# Altium footprint library HIGH AMP IGBT DRIVER.PcbLib: 48 footprints (part 2 of 3)
Each footprint in its own frame and in the unit in brackets; x right, y up, seen from the top. Pads: shape width x height; smd on the part's side, far side on the other; paste and mask are expansions set on the pad; w line width, h text height; cw(c..) or ccw(c..) is an arc to the next point about the centre after c.
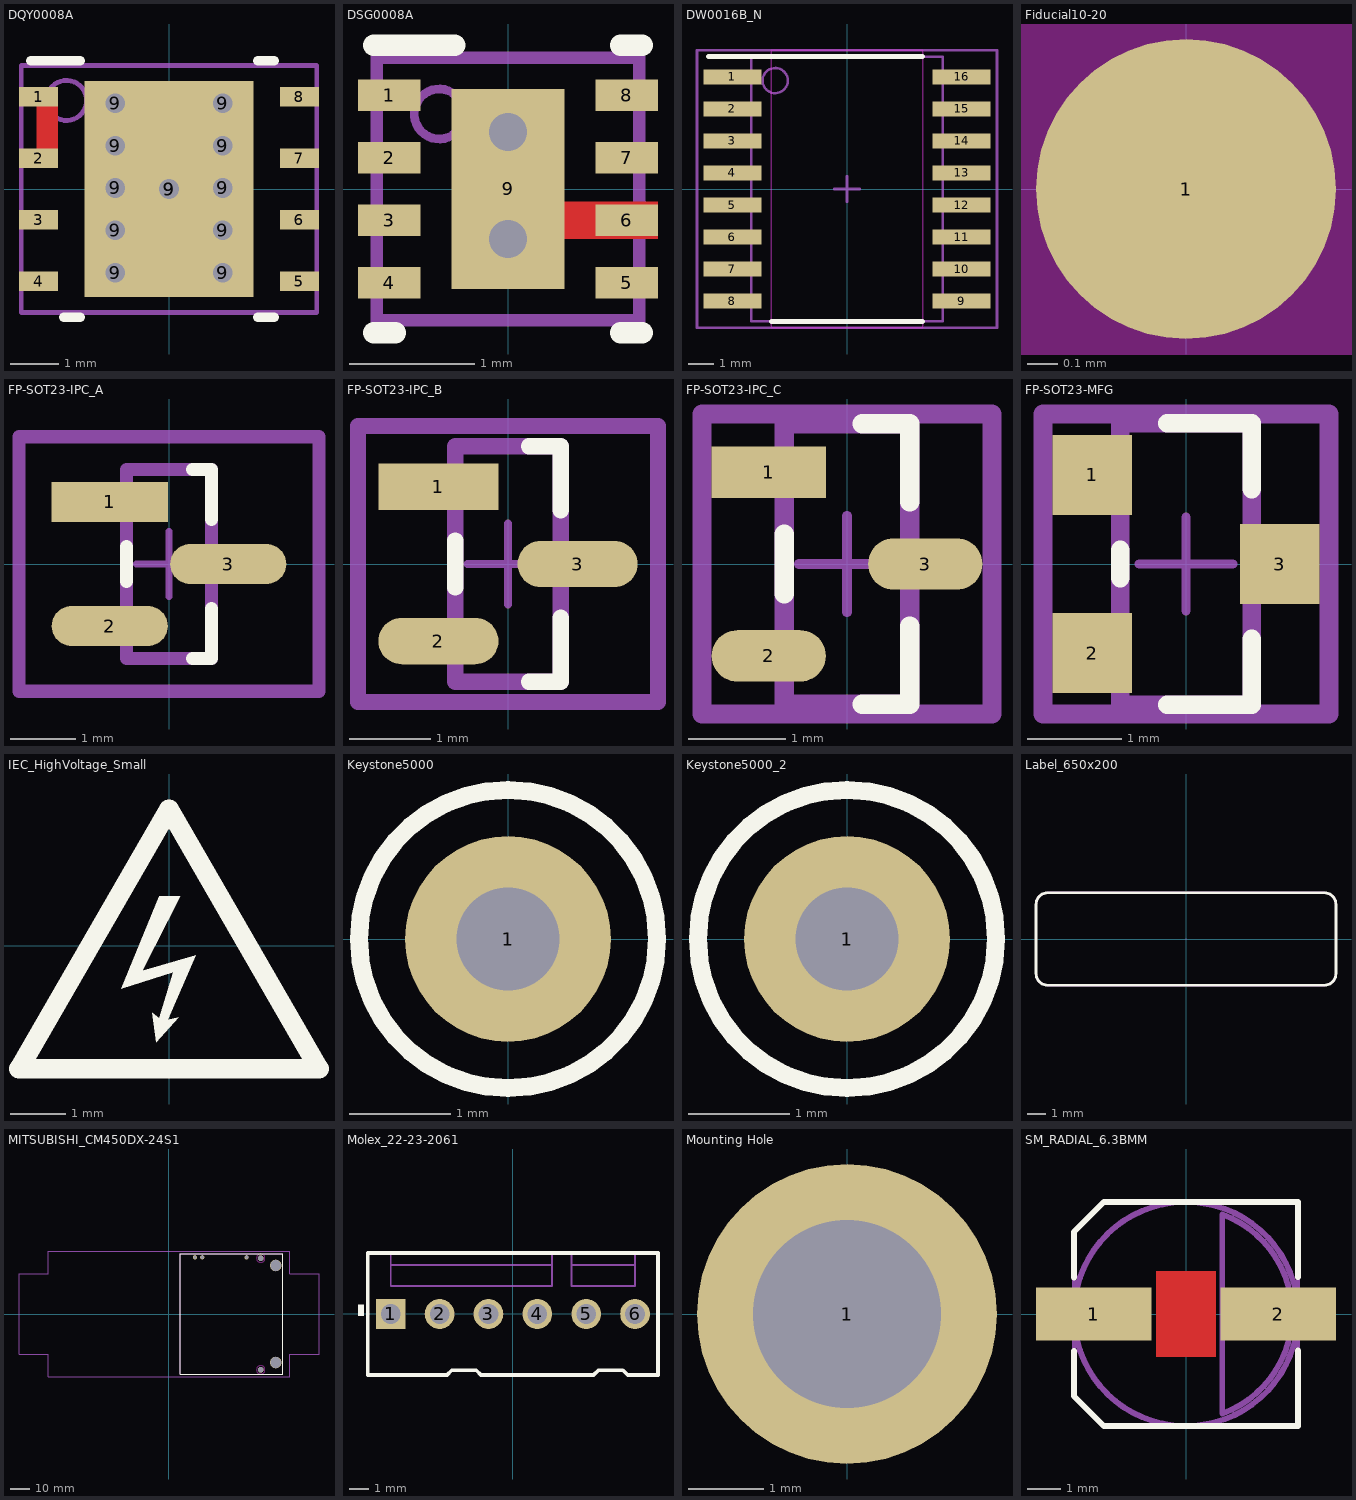
[diagram p1: the footprints below, top view; thin cyan lines are the x and y axes]

## DQY0008A [mil]
pads (20):
  rect 31.89x16.14 smd: 1(-106,75) 2(-106,25) 3(-106,-25) 4(-106,-75) 5(106,-75) 6(106,-25) 7(106,25) 8(106,75)
  round 30 hole 16: 9(-43.7,-68.06) 9(-43.7,-33.61) 9(-43.7,0.84) 9(-43.7,35.29) 9(-43.7,69.73) 9(0,0) 9(43.7,-68.06) 9(43.7,-33.61) 9(43.7,0.84) 9(43.7,35.29) 9(43.7,69.73)
  rect 137.01x175.59 smd paste-87.3: 9(0,0)
Top Layer:
  rectangle: -107.77,16.93 -90.05,83.07
Top Overlay:
  lines w7.87: -112.2,104.33 -72.09,104.33 ; -85.68,-104.33 -72.09,-104.33 ; 72.09,-104.33 85.68,-104.33 ; 72.09,104.33 85.68,104.33
Top Paste:
  rectangle: 3.94,3.94 62.99,77.4
  region: -3.94,77.4 -62.99,77.4 -62.99,3.94 -3.94,3.94
  region: -3.94,-3.94 -62.99,-3.94 -62.99,-77.4 -3.94,-77.4
  rectangle: 3.94,-77.4 62.99,-3.94
Top Assembly:
  circle w4: c-83.28,72 r16.28
  lines w3.94: -120.08,-100.39 -120.08,100.39 120.08,100.39 120.08,-100.39 -120.08,-100.39
  text ".Designator" at -28,18 h30
3D body: height 59.06, standoff 0, extent -122.05,-102.36 122.05,102.36
3D body: height 59.45, standoff 39.37, extent -99.54,55.74 -67.02,88.26

## DSG0008A [mm]
pads (9):
  rect 0.5x0.25 smd: 1(-0.95,0.75) 2(-0.95,0.25) 3(-0.95,-0.25) 4(-0.95,-0.75) 5(0.95,-0.75) 6(0.95,-0.25) 7(0.95,0.25) 8(0.95,0.75)
  rect 0.9x1.6 smd paste-0.45: 9(0,0)
via 0,-0.4 diameter 0.61 hole 0.305
via 0,0.457 diameter 0.61 hole 0.305
Top Layer:
  rectangle: 0,-0.4 1.2,-0.1
Top Overlay:
  lines w0.17: -1.075,-1.15 -0.9,-1.15 ; -1.075,1.15 -0.425,1.15 ; 0.9,-1.15 1.075,-1.15 ; 0.9,1.15 1.075,1.15
Top Paste:
  rectangle: -0.427,-0.733 0.427,0.733
Top Assembly:
  circle w0.07: c-0.55,0.6 r0.2
  lines w0.1: -1.05,-1.05 -1.05,1.05 1.05,1.05 1.05,-1.05 -1.05,-1.05
  text ".Designator" at -0.102,0.711 h0.76
3D body: height 0.8, standoff 0.5, extent -0.749,0.401 -0.351,0.799
3D body: height 0.8, standoff 0, extent -1.05,-1.05 1.05,1.05

## DW0016B_N [mm]
pads (16):
  rect 2.3x0.6 smd: 1(-4.55,4.445) 2(-4.55,3.175) 3(-4.55,1.905) 4(-4.55,0.635) 5(-4.55,-0.635) 6(-4.55,-1.905) 7(-4.55,-3.175) 8(-4.55,-4.445) 9(4.55,-4.445) 10(4.55,-3.175) 11(4.55,-1.905) 12(4.55,-0.635) 13(4.55,0.635) 14(4.55,1.905) 15(4.55,3.175) 16(4.55,4.445)
Top Overlay:
  lines w0.2: -5.5,5.25 3,5.25 ; -3,-5.25 3,-5.25
Keep-Out Layer:
  lines w0.05: -3,-5.5 -3,5.5 3,5.5 3,-5.5 -3,-5.5
Top Assembly:
  circle w0.1: c-2.85,4.3 r0.5
  lines w0.1: -3.8,-5.25 -3.8,5.25 3.8,5.25 3.8,-5.25 -3.8,-5.25
  text ".Designator" at 2.032,3.429 h0.76
Mechanical 15:
  lines w0.1: -0.5,0 0.5,0 ; 0,-0.5 0,0.5 ; -5.95,-5.5 -5.95,5.5 5.95,5.5 5.95,-5.5 -5.95,-5.5
3D body: height 2.66, standoff 2.65, extent -3.25,3.85 -2.45,4.65
3D body: height 2.65, standoff 0.1, extent -3.8,-5.25 3.8,5.25

## Fiducial10-20 [mm]
pads (1):
  round 1 smd mask+0.5: 1(0,0)
Top Layer keep-out:
  circle w1.178: c0,0 r0.5

## FP-SOT23-IPC_A [mm]
pads (3):
  rect 1.781x0.612 smd paste+0 mask+0: 1(-0.908,0.95)
  rrect100% 1.781x0.612 smd paste+0 mask+0: 2(-0.908,-0.95) 3(0.908,0)
Top Overlay:
  lines w0.2: -0.65,-0.269 -0.65,0.269 ; 0.358,-1.45 0.65,-1.45 0.65,-0.681 ; 0.358,1.45 0.65,1.45 0.65,0.681
Top 3D Body:
  lines w0.2: -0.65,-1.45 0.65,-1.45 0.65,1.45 -0.65,1.45 -0.65,-1.45
Top Assembly:
  lines w0.2: -2.298,-1.95 2.298,-1.95 2.298,1.95 -2.298,1.95 -2.298,-1.95
  text ".Designator" at 0,-0.001 h1
Top Courtyard:
  lines w0.2: -2.298,-1.95 2.298,-1.95 2.298,1.95 -2.298,1.95 -2.298,-1.95
Top Component Center:
  lines w0.1: -0.5,0 0.5,0 ; 0,-0.5 0,0.5
3D body "Diode_Bourns_Inc_CDSOT23-SM712_eec.STEP": height 0.25, standoff 0, extent -2.298,-1.95 2.298,1.95

## FP-SOT23-IPC_B [mm]
pads (3):
  rect 1.481x0.572 smd paste+0 mask+0: 1(-0.858,0.95)
  rrect100% 1.481x0.572 smd paste+0 mask+0: 2(-0.858,-0.95) 3(0.858,0)
Top Overlay:
  lines w0.2: -0.65,-0.289 -0.65,0.289 ; 0.258,-1.45 0.65,-1.45 0.65,-0.661 ; 0.258,1.45 0.65,1.45 0.65,0.661
Top 3D Body:
  lines w0.2: -0.65,-1.45 -0.65,1.45 0.65,1.45 0.65,-1.45 -0.65,-1.45
Top Assembly:
  lines w0.2: -1.848,-1.7 -1.848,1.7 1.848,1.7 1.848,-1.7 -1.848,-1.7
  text ".Designator" at 0,-0.001 h1
Top Courtyard:
  lines w0.2: -1.848,-1.7 -1.848,1.7 1.848,1.7 1.848,-1.7 -1.848,-1.7
Top Component Center:
  lines w0.1: -0.5,0 0.5,0 ; 0,-0.5 0,0.5
3D body "Diode_Bourns_Inc_CDSOT23-SM712_eec.STEP": height 0.25, standoff 0, extent -1.848,-1.7 1.848,1.7

## FP-SOT23-IPC_C [mm]
pads (3):
  rect 1.181x0.532 smd paste+0 mask+0: 1(-0.808,0.95)
  rrect100% 1.181x0.532 smd paste+0 mask+0: 2(-0.808,-0.95) 3(0.808,0)
Top Overlay:
  lines w0.2: -0.65,-0.309 -0.65,0.309 ; 0.158,-1.45 0.65,-1.45 0.65,-0.641 ; 0.158,1.45 0.65,1.45 0.65,0.641
Top 3D Body:
  lines w0.2: -0.65,-1.45 0.65,-1.45 0.65,1.45 -0.65,1.45 -0.65,-1.45
Top Assembly:
  lines w0.2: -1.498,-1.55 1.498,-1.55 1.498,1.55 -1.498,1.55 -1.498,-1.55
  text ".Designator" at 0,-0.001 h1
Top Courtyard:
  lines w0.2: -1.498,-1.55 1.498,-1.55 1.498,1.55 -1.498,1.55 -1.498,-1.55
Top Component Center:
  lines w0.1: -0.5,0 0.5,0 ; 0,-0.5 0,0.5
3D body "Diode_Bourns_Inc_CDSOT23-SM712_eec.STEP": height 0.25, standoff 0, extent -1.498,-1.55 1.498,1.55

## FP-SOT23-MFG [mm]
pads (3):
  rect 0.85x0.85 smd paste+0 mask+0: 1(-1,0.95) 2(-1,-0.95) 3(1,0)
Top Overlay:
  lines w0.2: -0.7,-0.15 -0.7,0.15 ; -0.2,-1.5 0.7,-1.5 0.7,-0.8 ; -0.2,1.5 0.7,1.5 0.7,0.8
Top 3D Body:
  lines w0.2: -0.7,-1.5 -0.7,1.5 0.7,1.5 0.7,-1.5 -0.7,-1.5
Top Assembly:
  lines w0.2: -1.525,-1.6 -1.525,1.6 1.525,1.6 1.525,-1.6 -1.525,-1.6
  text ".Designator" at 0,-0.001 h1
Top Courtyard:
  lines w0.2: -1.525,-1.6 -1.525,1.6 1.525,1.6 1.525,-1.6 -1.525,-1.6
Top Component Center:
  lines w0.1: -0.5,0 0.5,0 ; 0,-0.5 0,0.5
3D body "Diode_Bourns_Inc_CDSOT23-SM712_eec.STEP": height 0.25, standoff 0, extent -1.525,-1.6 1.525,1.6

## IEC_HighVoltage_Small [mm]
Top Overlay:
  region: -0.178,0.889 0.203,0.889 -0.483,-0.457 0.483,-0.178 -0.025,-1.346 0.178,-1.295 -0.229,-1.753 -0.305,-1.219 -0.178,-1.321 0.076,-0.483 -0.864,-0.787
  lines w0.356: -2.718,-2.235 0,2.472 2.718,-2.235 -2.718,-2.235

## Keystone5000 [mil]
pads (1):
  round 80 hole 40: 1(0,0)
Top Overlay:
  circle w7: c0,0 r58
Top Assembly:
  circle w5: c0,0 r58.31
  text ".Designator" at -45,-10 h30
3D body "Keystone_5000.stp": height 181.74, standoff -118.11, extent -49.39,-48.74 49.04,48.97

## Keystone5000_2 [mil]
pads (1):
  round 80 hole 40: 1(0,0)
Top Overlay:
  circle w7: c0,0 r58
Top Assembly:
  circle w5: c0,0 r58.31
  text ".Designator" at -45,-10 h30
3D body "Keystone_5000.stp": height 181.74, standoff -118.11, extent -49.39,-48.74 49.04,48.97

## Label_650x200 [mil]
pads (1):
  round 1 on Mech2: 0(0,0)
Top Overlay:
  lines w6: -325,-75 ccw(c-300,-75) -300,-100 300,-100 ccw(c300,-75) 325,-75 325,75 ccw(c300,75) 300,100 -300,100 ccw(c-300,75) -325,75 -325,-75
Top Assembly:
  lines w5: -325,-75 ccw(c-300,-75) -300,-100 300,-100 ccw(c300,-75) 325,-75 325,75 ccw(c300,75) 300,100 -300,100 ccw(c-300,75) -325,75 -325,-75
  text ".Designator" at -26,64 h30
3D body: height 1, standoff 0, extent -325.02,-100.02 325.02,100.02

## MITSUBISHI_CM450DX-24S1 [mm]
pads (7):
  round 2.15 hole 1.65: 3(13.33,29.2) 4(17.14,29.2) 5(40,29.2)
  round 2.854 hole 2.854 unplated mask+0.127: ""(47.25,-28.75) ""(47.25,28.75)
  round 6 hole 5.5 unplated mask+0.127: ""(55,-25) ""(55,25)
Top Overlay:
  lines w0.178: 5.842,-31 58.623,-31 58.623,-21.727 58.623,21.727 58.623,31 5.842,31 5.842,23.098 5.842,-14.53 5.842,-31
Keep-Out Layer:
  circle w0.05: c47.25,28.75 r2.189
  circle w0.05: c47.25,-28.75 r2.189
Top Assembly:
  lines w0.127: 5.842,-31 58.623,-31 58.623,-17.273 58.623,21.727 58.623,31 5.842,31 5.842,19.5 5.842,-19.5 5.842,-31
  text ".Designator" at 31.013,2.108 h0.89
Top Courtyard:
  lines w0.05: -77.27,-20.77 -62.12,-20.77 -62.12,-32.27 62.12,-32.27 62.12,-20.77 77.27,-20.77 77.27,20.77 62.12,20.77 62.12,32.27 -62.12,32.27 -62.12,20.77 -77.27,20.77 -77.27,-20.77
Bottom Assembly:
  text "PCB DESIGNER IS RESPONSIBLE TO APPLY CORRECT COPPER CLEARANCES" at -46.482,21.336 h1.52
  text "FOR VOLTAGES APPLIED (PULSED OR CONTINUOUS) TO PREVENT ARCING IN USE ENVIRONMENT." at -60.198,17.399 h1.52
  text "CONSULT WITH ENGINEER ON ALL PCB CLEARANCES NEEDED." at -40.767,13.081 h1.52
  text "ANTIPAD PLANE CLEARANCES ARE SET AT 1 INCH DIA BY DEFAULT." at -45.466,9.017 h1.52
3D body: height 17, standoff 0, extent -76,-31 76,31

## Molex_22-23-2061 [mm]
pads (6):
  rect 1.55x1.55 hole 1.02: 1(-6.35,0)
  round 1.55 hole 1.02: 2(-3.81,0) 3(-1.27,0) 4(1.27,0) 5(3.81,0) 6(6.35,0)
Top Overlay:
  rectangle: -8.052,-0.102 -7.747,0.483
  lines w0.2: -7.544,-3.175 -3.429,-3.175 -3.175,-2.921 -1.905,-2.921 -1.651,-3.175 4.191,-3.175 4.445,-2.921 5.715,-2.921 5.969,-3.175 7.544,-3.175 7.544,3.175 6.35,3.175 3.048,3.175 2.032,3.175 -6.35,3.175 -7.544,3.175 -7.544,-3.175
Top Assembly:
  lines w0.1: -6.35,2.54 2.032,2.54 ; -6.35,2.54 -6.35,1.46 2.032,1.46 2.032,2.54 ; -6.35,2.54 -6.35,3.175 ; -6.35,3.175 2.032,3.175 ; -6.35,3.175 -7.544,3.175 -7.544,-3.175 -3.429,-3.175 -3.175,-2.921 -1.905,-2.921 -1.651,-3.175 4.191,-3.175 4.445,-2.921 5.715,-2.921 5.969,-3.175 7.544,-3.175 7.544,3.175 6.35,3.175 ; 2.032,2.54 2.032,3.175 ; 2.032,3.175 3.048,3.175 ; 3.048,2.54 6.35,2.54 ; 3.048,2.54 3.048,1.46 6.35,1.46 6.35,2.54 ; 3.048,2.54 3.048,3.175 ; 3.048,3.175 6.35,3.175 ; 6.35,2.54 6.35,3.175
  text ".Designator" at -1.524,-0.508 h0.76
3D body "022232061.stp": height 10.67, standoff -3.56, extent -7.544,-3.251 7.544,3.099

## Mounting Hole [mm]
pads (1):
  round 4 hole 2.5: 1(0,0)

## SM_RADIAL_6.3BMM [mm]
pads (2):
  rect 3.5x1.6 smd: 1(-2.8,0) 2(2.8,0)
Top Layer:
  pour cut-out: -0.9,1.3 0.9,1.3 0.9,-1.3 -0.9,-1.3
Top Overlay:
  lines w0.178: -3.4,-1.122 -3.4,-2.493 -2.493,-3.4 3.4,-3.4 3.4,-1.112 ; -3.4,1.108 -3.4,2.493 -2.493,3.4 3.4,3.4 3.4,1.118
Top 3D Body:
  circle w0.178: c0,0 r3.4
  lines w0.178: 1.1,-3.022 ccw(c0,0) 1.1,3.022 1.1,-3.022
Top Assembly:
  lines w0.127: -3.4,-2.493 -3.4,2.493 -2.493,3.4 3.4,3.4 3.4,-3.4 -2.493,-3.4 -3.4,-2.493
  text ".Designator" at 1.626,0.584 h0.76
3D body: height 1, standoff 0, extent -3.401,-3.401 3.401,3.401
3D body: height 8, standoff 1, extent -3.399,-3.399 3.399,3.399
3D body: height 8, standoff 6, extent 1.1,-3.023 3.217,3.023